# Altium integrated library TI Power Management Step-Down Regulator.IntLib: 559 symbols (part 7 of 35)
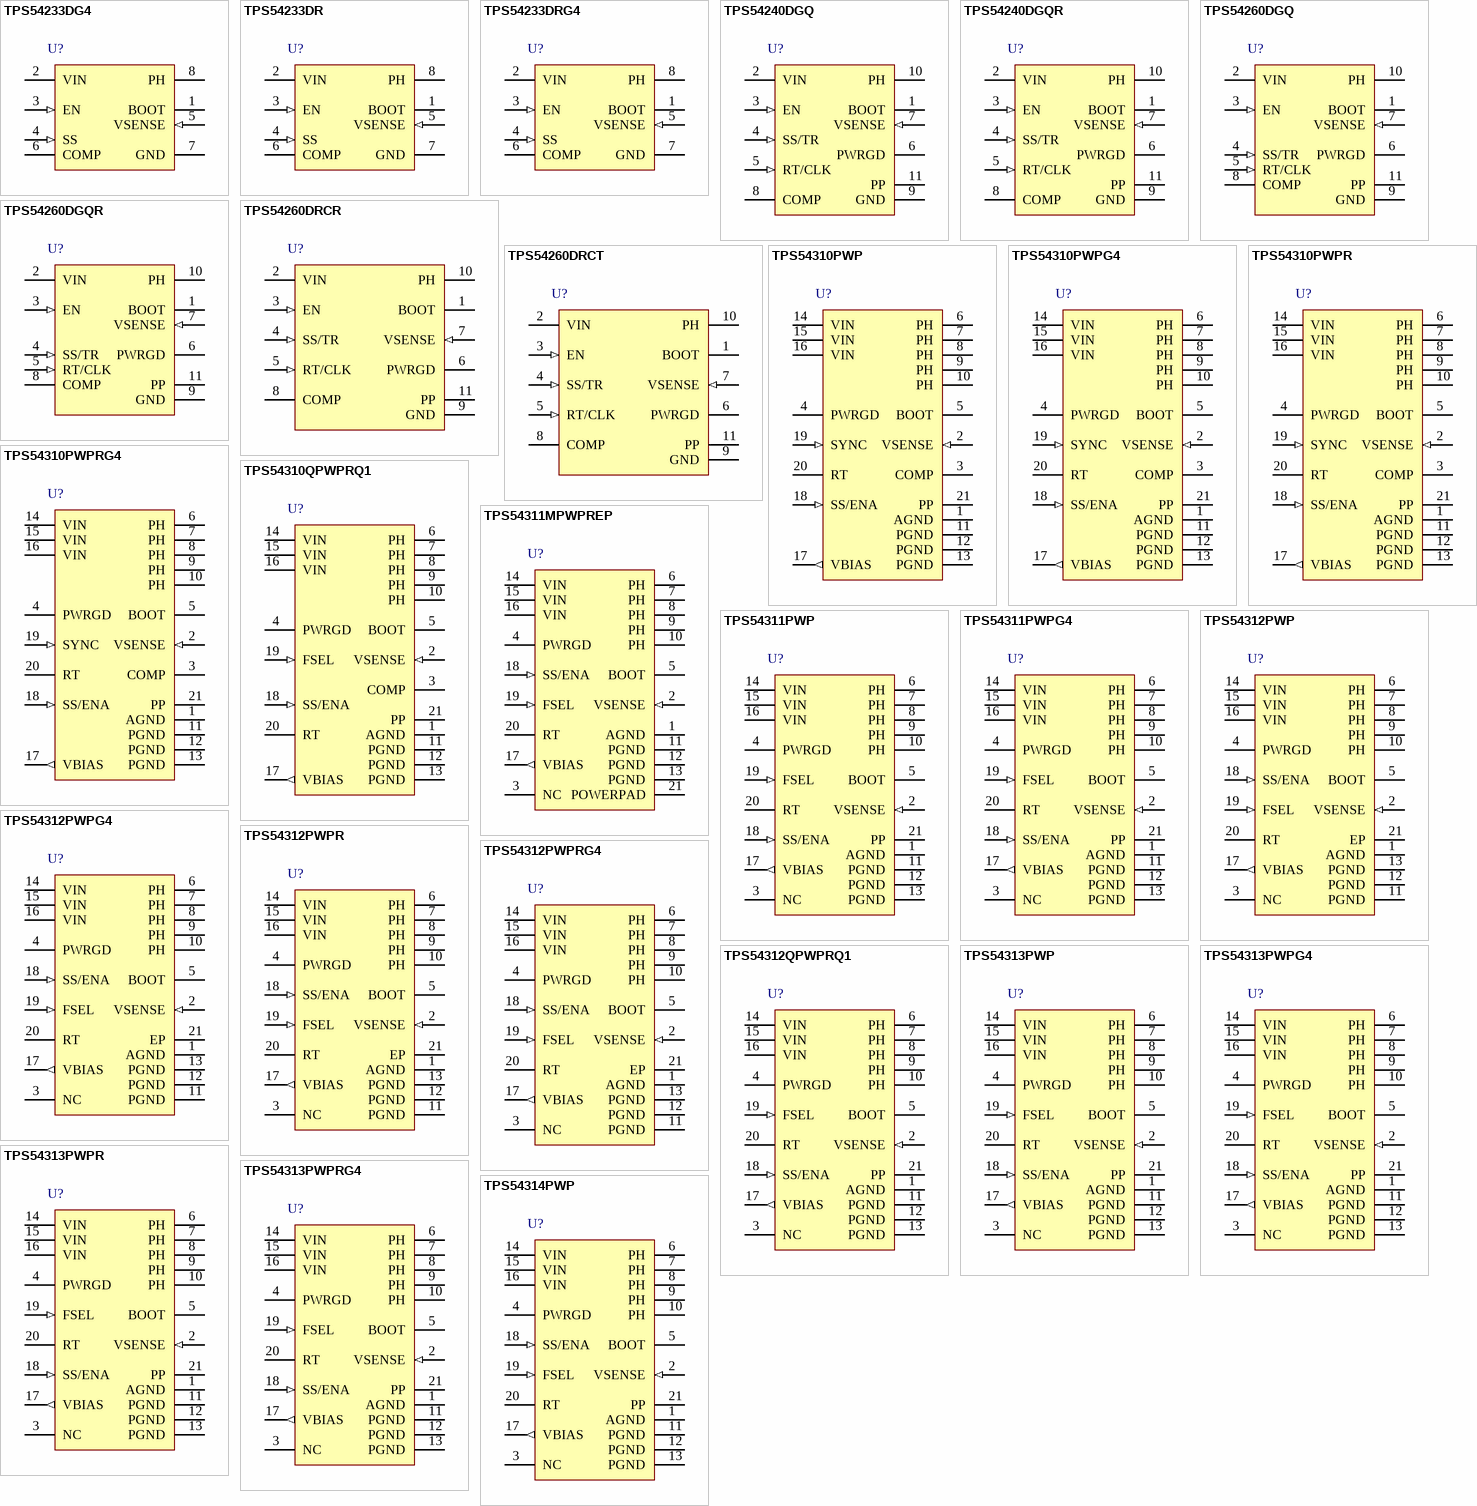
[diagram p25: symbols TPS54233DG4 to TPS54314PWP]

## TPS54260DRCR
designator U?
Buck Inverting Buck-Boost Step Down Regulator with 3.5 to 60 V Input and 0.8 to 58 V Output, -40 to 150 degC, 10-Pin SON (DRC), Green (RoHS & no Sb/Br); Manufacturer: Texas Instruments; PartNumber: TPS54260DRCR; Duty Cycle(Max)(%): 98; Iout(Max)(A): 2.5; Iq(Typ)(mA): 0.138; Rating: Catalog; Regulated Outputs(#): 1; SubFamily: Step-Down Regulator; Switch Current Limit(Typ)(A): 3.5; Topology: Buck, Inverting Buck-Boost; Vin(Max)(V): 60; Vout(Max)(V): 58; Vout(Min)(V): 0.8; DatasheetVersion: SLVSA86A; PackageVersion: revL, Sep-2011; PackageReference: DRC10-2400X1650TP; PackageDescription: 10-Pin Plastic Small Outline No-Lead, 3 x 3 x 1 mm Body, 0.5 mm Pitch, Exposed Pad; Supplier 1: Digi-Key; Supplier Part Number 1: TPS54260DRCR-ND; Supplier 2: Newark; Supplier Part Number 2: 24T4817; Supplier 3: Mouser; Supplier Part Number 3: 595-TPS54260DRCR; Eco-Plan: Green (RoHS & no Sb/Br); Vin(Min)(V): 3.5; Mounting Technology: Surface Mount; ComponentLink1Description: Datasheet; ComponentLink1URL: http://www.ti.com/general/docs/lit/getliterature.tsp?genericPartNumber=TPS54260&fileType=pdf; ComponentLink2Description: Package Specification; ComponentLink2URL: http://www.ti.com/litv/pdf/mpds117k; ComponentLink3Description: URL Link1; ComponentLink3URL: Samples URL:http://www.ti.com/product/tps54260#samples
footprint DRC10-2400X1650TP (SON, 10-Leads, Body 3x3mm, Pitch 0.5mm, Thermal Pad 2.4x1.65mm, TI Recommended)
pins: 1 BOOT "A bootstrap capacitor is required between BOOT and PH. If the voltage on this capacitor is below the minimum required by the output device, the output is forced to switch off until the capacitor is refreshed.", 2 VIN (power) "Input supply voltage, 3.5 V to 60 V.", 3 EN (in) "Enable pin, internal pull-up current source. Pull below 1.2V to disable. Float to enable. Adjust the input undervoltage lockout with two resistors.", 4 SS/TR (in) "Slow-start and Tracking. An external capacitor connected to this pin sets the output rise time. Since the voltage on this pin overrides the internal reference, it can be used for tracking and sequencing.", 5 RT/CLK (in) "Resistor Timing and External Clock. An internal amplifier holds this pin at a fixed voltage when using an external resistor to ground to set the switching frequency. If the pin is pulled above the PLL upper threshold, a mode (See Datasheet)", 6 PWRGD (oc) "An open drain output, asserts low if output voltage is low due to thermal shutdown, dropout, over-voltage or EN shut down.", 7 VSENSE (in) "Inverting node of the transconductance ( gm) error amplifier.", 8 COMP "Error amplifier output, and input to the output switch current comparator. Connect frequency compensation components to this pin.", 9 GND (power) "Ground", 10 PH (power) "The source of the internal high-side power MOSFET.", 11 PP (power) "GND pin must be electrically connected to the exposed pad on the printed circuit board for proper operation."

## TPS54260DRCT
designator U?
Buck Inverting Buck-Boost Step Down Regulator with 3.5 to 60 V Input and 0.8 to 58 V Output, -40 to 150 degC, 10-Pin SON (DRC), Green (RoHS & no Sb/Br); Manufacturer: Texas Instruments; PartNumber: TPS54260DRCT; Duty Cycle(Max)(%): 98; Iout(Max)(A): 2.5; Iq(Typ)(mA): 0.138; Rating: Catalog; Regulated Outputs(#): 1; SubFamily: Step-Down Regulator; Switch Current Limit(Typ)(A): 3.5; Topology: Buck, Inverting Buck-Boost; Vin(Max)(V): 60; Vout(Max)(V): 58; Vout(Min)(V): 0.8; DatasheetVersion: SLVSA86A; PackageVersion: revL, Sep-2011; PackageReference: DRC10-2400X1650TP; PackageDescription: 10-Pin Plastic Small Outline No-Lead, 3 x 3 x 1 mm Body, 0.5 mm Pitch, Exposed Pad; Supplier 1: Digi-Key; Supplier Part Number 1: 296-28102-2-ND; Supplier 2: Digi-Key; Supplier Part Number 2: 296-28102-1-ND; Supplier 3: Digi-Key; Supplier Part Number 3: 296-28102-6-ND; Supplier 4: Farnell; Supplier Part Number 4: 2115233; Supplier 5: Newark; Supplier Part Number 5: 94T6071; Supplier 6: Newark; Supplier Part Number 6: 24T4818; Supplier 7: Mouser; Supplier Part Number 7: 595-TPS54260DRCT; Eco-Plan: Green (RoHS & no Sb/Br); Vin(Min)(V): 3.5; Mounting Technology: Surface Mount; ComponentLink1Description: Datasheet; ComponentLink1URL: http://www.ti.com/general/docs/lit/getliterature.tsp?genericPartNumber=TPS54260&fileType=pdf; ComponentLink2Description: Package Specification; ComponentLink2URL: http://www.ti.com/litv/pdf/mpds117k; ComponentLink3Description: URL Link1; ComponentLink3URL: Samples URL:http://www.ti.com/product/tps54611#samples
footprint DRC10-2400X1650TP (SON, 10-Leads, Body 3x3mm, Pitch 0.5mm, Thermal Pad 2.4x1.65mm, TI Recommended)
pins: 1 BOOT "A bootstrap capacitor is required between BOOT and PH. If the voltage on this capacitor is below the minimum required by the output device, the output is forced to switch off until the capacitor is refreshed.", 2 VIN (power) "Input supply voltage, 3.5 V to 60 V.", 3 EN (in) "Enable pin, internal pull-up current source. Pull below 1.2V to disable. Float to enable. Adjust the input undervoltage lockout with two resistors.", 4 SS/TR (in) "Slow-start and Tracking. An external capacitor connected to this pin sets the output rise time. Since the voltage on this pin overrides the internal reference, it can be used for tracking and sequencing.", 5 RT/CLK (in) "Resistor Timing and External Clock. An internal amplifier holds this pin at a fixed voltage when using an external resistor to ground to set the switching frequency. If the pin is pulled above the PLL upper threshold, a mode (See Datasheet)", 6 PWRGD (oc) "An open drain output, asserts low if output voltage is low due to thermal shutdown, dropout, over-voltage or EN shut down.", 7 VSENSE (in) "Inverting node of the transconductance ( gm) error amplifier.", 8 COMP "Error amplifier output, and input to the output switch current comparator. Connect frequency compensation components to this pin.", 9 GND (power) "Ground", 10 PH (power) "The source of the internal high-side power MOSFET.", 11 PP (power) "GND pin must be electrically connected to the exposed pad on the printed circuit board for proper operation."

## TPS54310PWP
designator U?
Buck Step Down Regulator with 3 to 6 V Input and 0.9 to 3.3 V Output, -40 to 125 degC, 20-Pin HTSSOP (PWP), Green (RoHS & no Sb/Br); Manufacturer: Texas Instruments; PartNumber: TPS54310PWP; Duty Cycle(Max)(%): 87; Iout(Max)(A): 3; Iq(Typ)(mA): 6.2; Rating: Catalog; Regulated Outputs(#): 1; SubFamily: Step-Down Regulator; Switch Current Limit(Typ)(A): 4; Synchronous Rectification: TRUE; Vin(Max)(V): 6; Vout(Max)(V): 3.3; Vout(Min)(V): 0.9; DatasheetVersion: SLVS412D; PackageVersion: revI, May-2011; PackageReference: PWP20-3005X2005TP; PackageDescription: 20-Pin PowerPAD Plastic Small Outline 6.5 x 4.4 mm Body ,0.65 mm Pitch, Exposed Pad; Supplier 1: Digi-Key; Supplier Part Number 1: 296-12509-5-ND; Supplier 2: Farnell; Supplier Part Number 2: 1106048; Supplier 3: Newark; Supplier Part Number 3: 77C0489; Supplier 4: Mouser; Supplier Part Number 4: 595-TPS54310PWP; Eco-Plan: Green (RoHS & no Sb/Br); Topology: Buck; Vin(Min)(V): 3; Mounting Technology: Surface Mount; Code_JEDEC: MO-153; ComponentLink1Description: Datasheet; ComponentLink1URL: http://www.ti.com/general/docs/lit/getliterature.tsp?genericPartNumber=TPS54310&fileType=pdf; ComponentLink2Description: Package Specification; ComponentLink2URL: http://www.ti.com/lit/ml/mhts001g/mhts001g.pdf; ComponentLink3Description: URL Link1; ComponentLink3URL: Samples URL:http://www.ti.com/product/tps54310#samples
footprint PWP20-3005X2005TP_N (TSOP, 20-Leads, Body 6.5x4.4mm, Pitch 0.65mm, Thermal Pad 3.7x2.4 mm, IPC Medium Density)
footprint PWP20-3005X2005TP_L (TSOP, 20-Leads, Body 6.5x4.4mm, Pitch 0.65mm, Thermal Pad 3.7x2.4 mm, IPC High Density)
footprint PWP20-3005X2005TP_M (TSOP, 20-Leads, Body 6.5x4.4mm, Pitch 0.65mm, Thermal Pad 3.7x2.4 mm, IPC Low Density)
pins: 1 AGND (power) "Analog ground. Return for compensation network/output divider, slow-start capacitor, VBIAS capacitor, RT resistor and SYNC pin. Make PowerPAD connection to AGND.", 2 VSENSE (in) "Error amplifier inverting input.", 3 COMP "Error amplifier output. Connect compensation network from COMP to VSENSE.", 4 PWRGD (oc) "Power good open drain output. High when VSENSE >= 90% Vref, otherwise PWRGD is low. Note that output is low when SS/ENA is low or internal shutdown signal active.", 5 BOOT "Bootstrap input. 0.022-uF to 0.1-uF low-ESR capacitor connected from BOOT to PH generates floating drive for the high-side FET driver.", 6 PH (power) "Phase input/output. Junction of the internal high and low-side power MOSFETs, and output inductor.", 7 PH (power) "Phase input/output. Junction of the internal high and low-side power MOSFETs, and output inductor.", 8 PH (power) "Phase input/output. Junction of the internal high and low-side power MOSFETs, and output inductor.", 9 PH (power) "Phase input/output. Junction of the internal high and low-side power MOSFETs, and output inductor.", 10 PH (power) "Phase input/output. Junction of the internal high and low-side power MOSFETs, and output inductor.", 11 PGND (power) "Power ground. High current return for the low-side driver and power MOSFET. Connect PGND with large copper areas to the input and output supply returns, and negative terminals of the input and output capacitors.", 12 PGND (power) "Power ground. High current return for the low-side driver and power MOSFET. Connect PGND with large copper areas to the input and output supply returns, and negative terminals of the input and output capacitors.", 13 PGND (power) "Power ground. High current return for the low-side driver and power MOSFET. Connect PGND with large copper areas to the input and output supply returns, and negative terminals of the input and output capacitors.", 14 VIN (power) "Input supply for the power MOSFET switches and internal bias regulator. Bypass VIN pins to PGND pins close to device package with a high quality, low ESR 1-uF to 10-uF ceramic capacitor.", 15 VIN (power) "Input supply for the power MOSFET switches and internal bias regulator. Bypass VIN pins to PGND pins close to device package with a high quality, low ESR 1-uF to 10-uF ceramic capacitor.", 16 VIN (power) "Input supply for the power MOSFET switches and internal bias regulator. Bypass VIN pins to PGND pins close to device package with a high quality, low ESR 1-uF to 10-uF ceramic capacitor.", 17 VBIAS (out) "Internal bias regulator output. Supplies regulated voltage to internal circuitry. Bypass VBIAS pin to AGND pin with a high quality, low ESR 0.1-uF to 1.0-uF ceramic capacitor.", 18 SS/ENA (in) "Slow-start/enable input/output. Dual function pin which provides logic input to enable/disable device operation and capacitor input to externally set the start-up time.", 19 SYNC (in) "Synchronization input. Dual function pin which provides logic input to synchronize to an external oscillator or pin select between two internally set switching frequencies. When used to synchronize to an external signal, a (See Datasheet)", 20 RT "Frequency setting resistor input. Connect a resistor from RT to AGND to set the switching frequency, fs.", 21 PP (power) "Exposed Thermal Pad"

## TPS54310PWPG4
designator U?
Buck Step Down Regulator with 3 to 6 V Input and 0.9 to 3.3 V Output, -40 to 125 degC, 20-Pin HTSSOP (PWP), Green (RoHS & no Sb/Br); Manufacturer: Texas Instruments; PartNumber: TPS54310PWPG4; Duty Cycle(Max)(%): 87; Iout(Max)(A): 3; Iq(Typ)(mA): 6.2; Rating: Catalog; Regulated Outputs(#): 1; SubFamily: Step-Down Regulator; Switch Current Limit(Typ)(A): 4; Synchronous Rectification: TRUE; Vin(Max)(V): 6; Vout(Max)(V): 3.3; Vout(Min)(V): 0.9; DatasheetVersion: SLVS412D; PackageVersion: revI, May-2011; PackageReference: PWP20-3005X2005TP; PackageDescription: 20-Pin PowerPAD Plastic Small Outline 6.5 x 4.4 mm Body ,0.65 mm Pitch, Exposed Pad; Supplier 1: Digi-Key; Supplier Part Number 1: TPS54310PWPG4-ND; Supplier 2: Farnell; Supplier Part Number 2: 9324275; Supplier 3: Newark; Supplier Part Number 3: 38K8713; Supplier 4: Newark; Supplier Part Number 4: 24K5983; Supplier 5: Mouser; Supplier Part Number 5: 595-TPS54310PWPG4; Eco-Plan: Green (RoHS & no Sb/Br); Topology: Buck; Vin(Min)(V): 3; Mounting Technology: Surface Mount; Code_JEDEC: MO-153; ComponentLink1Description: Datasheet; ComponentLink1URL: http://www.ti.com/general/docs/lit/getliterature.tsp?genericPartNumber=TPS54310&fileType=pdf; ComponentLink2Description: Package Specification; ComponentLink2URL: http://www.ti.com/lit/ml/mhts001g/mhts001g.pdf; ComponentLink3Description: URL Link1; ComponentLink3URL: Samples URL:http://www.ti.com/product/tps54310#samples
footprint PWP20-3005X2005TP_N (TSOP, 20-Leads, Body 6.5x4.4mm, Pitch 0.65mm, Thermal Pad 3.7x2.4 mm, IPC Medium Density)
footprint PWP20-3005X2005TP_L (TSOP, 20-Leads, Body 6.5x4.4mm, Pitch 0.65mm, Thermal Pad 3.7x2.4 mm, IPC High Density)
footprint PWP20-3005X2005TP_M (TSOP, 20-Leads, Body 6.5x4.4mm, Pitch 0.65mm, Thermal Pad 3.7x2.4 mm, IPC Low Density)
pins: 1 AGND (power) "Analog ground. Return for compensation network/output divider, slow-start capacitor, VBIAS capacitor, RT resistor and SYNC pin. Make PowerPAD connection to AGND.", 2 VSENSE (in) "Error amplifier inverting input.", 3 COMP "Error amplifier output. Connect compensation network from COMP to VSENSE.", 4 PWRGD (oc) "Power good open drain output. High when VSENSE >= 90% Vref, otherwise PWRGD is low. Note that output is low when SS/ENA is low or internal shutdown signal active.", 5 BOOT "Bootstrap input. 0.022-uF to 0.1-uF low-ESR capacitor connected from BOOT to PH generates floating drive for the high-side FET driver.", 6 PH (power) "Phase input/output. Junction of the internal high and low-side power MOSFETs, and output inductor.", 7 PH (power) "Phase input/output. Junction of the internal high and low-side power MOSFETs, and output inductor.", 8 PH (power) "Phase input/output. Junction of the internal high and low-side power MOSFETs, and output inductor.", 9 PH (power) "Phase input/output. Junction of the internal high and low-side power MOSFETs, and output inductor.", 10 PH (power) "Phase input/output. Junction of the internal high and low-side power MOSFETs, and output inductor.", 11 PGND (power) "Power ground. High current return for the low-side driver and power MOSFET. Connect PGND with large copper areas to the input and output supply returns, and negative terminals of the input and output capacitors.", 12 PGND (power) "Power ground. High current return for the low-side driver and power MOSFET. Connect PGND with large copper areas to the input and output supply returns, and negative terminals of the input and output capacitors.", 13 PGND (power) "Power ground. High current return for the low-side driver and power MOSFET. Connect PGND with large copper areas to the input and output supply returns, and negative terminals of the input and output capacitors.", 14 VIN (power) "Input supply for the power MOSFET switches and internal bias regulator. Bypass VIN pins to PGND pins close to device package with a high quality, low ESR 1-uF to 10-uF ceramic capacitor.", 15 VIN (power) "Input supply for the power MOSFET switches and internal bias regulator. Bypass VIN pins to PGND pins close to device package with a high quality, low ESR 1-uF to 10-uF ceramic capacitor.", 16 VIN (power) "Input supply for the power MOSFET switches and internal bias regulator. Bypass VIN pins to PGND pins close to device package with a high quality, low ESR 1-uF to 10-uF ceramic capacitor.", 17 VBIAS (out) "Internal bias regulator output. Supplies regulated voltage to internal circuitry. Bypass VBIAS pin to AGND pin with a high quality, low ESR 0.1-uF to 1.0-uF ceramic capacitor.", 18 SS/ENA (in) "Slow-start/enable input/output. Dual function pin which provides logic input to enable/disable device operation and capacitor input to externally set the start-up time.", 19 SYNC (in) "Synchronization input. Dual function pin which provides logic input to synchronize to an external oscillator or pin select between two internally set switching frequencies. When used to synchronize to an external signal, a (See Datasheet)", 20 RT "Frequency setting resistor input. Connect a resistor from RT to AGND to set the switching frequency, fs.", 21 PP (power) "Exposed Thermal Pad"

## TPS54310PWPR
designator U?
Buck Step Down Regulator with 3 to 6 V Input and 0.9 to 3.3 V Output, -40 to 125 degC, 20-Pin HTSSOP (PWP), Green (RoHS & no Sb/Br); Manufacturer: Texas Instruments; PartNumber: TPS54310PWPR; Duty Cycle(Max)(%): 87; Iout(Max)(A): 3; Iq(Typ)(mA): 6.2; Rating: Catalog; Regulated Outputs(#): 1; SubFamily: Step-Down Regulator; Switch Current Limit(Typ)(A): 4; Synchronous Rectification: TRUE; Vin(Max)(V): 6; Vout(Max)(V): 3.3; Vout(Min)(V): 0.9; DatasheetVersion: SLVS412D; PackageVersion: revI, May-2011; PackageReference: PWP20-3005X2005TP; PackageDescription: 20-Pin PowerPAD Plastic Small Outline 6.5 x 4.4 mm Body ,0.65 mm Pitch, Exposed Pad; Supplier 1: Digi-Key; Supplier Part Number 1: 296-26989-2-ND; Supplier 2: Digi-Key; Supplier Part Number 2: 296-26989-1-ND; Supplier 3: Digi-Key; Supplier Part Number 3: 296-26989-6-ND; Supplier 4: Newark; Supplier Part Number 4: 77C0490; Supplier 5: Mouser; Supplier Part Number 5: 595-TPS54310PWPR; Eco-Plan: Green (RoHS & no Sb/Br); Topology: Buck; Vin(Min)(V): 3; Mounting Technology: Surface Mount; Code_JEDEC: MO-153; ComponentLink1Description: Datasheet; ComponentLink1URL: http://www.ti.com/general/docs/lit/getliterature.tsp?genericPartNumber=TPS54310&fileType=pdf; ComponentLink2Description: Package Specification; ComponentLink2URL: http://www.ti.com/lit/ml/mhts001g/mhts001g.pdf; ComponentLink3Description: URL Link1; ComponentLink3URL: Samples URL:http://www.ti.com/product/tps54310#samples
footprint PWP20-3005X2005TP_N (TSOP, 20-Leads, Body 6.5x4.4mm, Pitch 0.65mm, Thermal Pad 3.7x2.4 mm, IPC Medium Density)
footprint PWP20-3005X2005TP_L (TSOP, 20-Leads, Body 6.5x4.4mm, Pitch 0.65mm, Thermal Pad 3.7x2.4 mm, IPC High Density)
footprint PWP20-3005X2005TP_M (TSOP, 20-Leads, Body 6.5x4.4mm, Pitch 0.65mm, Thermal Pad 3.7x2.4 mm, IPC Low Density)
pins: 1 AGND (power) "Analog ground. Return for compensation network/output divider, slow-start capacitor, VBIAS capacitor, RT resistor and SYNC pin. Make PowerPAD connection to AGND.", 2 VSENSE (in) "Error amplifier inverting input.", 3 COMP "Error amplifier output. Connect compensation network from COMP to VSENSE.", 4 PWRGD (oc) "Power good open drain output. High when VSENSE >= 90% Vref, otherwise PWRGD is low. Note that output is low when SS/ENA is low or internal shutdown signal active.", 5 BOOT "Bootstrap input. 0.022-uF to 0.1-uF low-ESR capacitor connected from BOOT to PH generates floating drive for the high-side FET driver.", 6 PH (power) "Phase input/output. Junction of the internal high and low-side power MOSFETs, and output inductor.", 7 PH (power) "Phase input/output. Junction of the internal high and low-side power MOSFETs, and output inductor.", 8 PH (power) "Phase input/output. Junction of the internal high and low-side power MOSFETs, and output inductor.", 9 PH (power) "Phase input/output. Junction of the internal high and low-side power MOSFETs, and output inductor.", 10 PH (power) "Phase input/output. Junction of the internal high and low-side power MOSFETs, and output inductor.", 11 PGND (power) "Power ground. High current return for the low-side driver and power MOSFET. Connect PGND with large copper areas to the input and output supply returns, and negative terminals of the input and output capacitors.", 12 PGND (power) "Power ground. High current return for the low-side driver and power MOSFET. Connect PGND with large copper areas to the input and output supply returns, and negative terminals of the input and output capacitors.", 13 PGND (power) "Power ground. High current return for the low-side driver and power MOSFET. Connect PGND with large copper areas to the input and output supply returns, and negative terminals of the input and output capacitors.", 14 VIN (power) "Input supply for the power MOSFET switches and internal bias regulator. Bypass VIN pins to PGND pins close to device package with a high quality, low ESR 1-uF to 10-uF ceramic capacitor.", 15 VIN (power) "Input supply for the power MOSFET switches and internal bias regulator. Bypass VIN pins to PGND pins close to device package with a high quality, low ESR 1-uF to 10-uF ceramic capacitor.", 16 VIN (power) "Input supply for the power MOSFET switches and internal bias regulator. Bypass VIN pins to PGND pins close to device package with a high quality, low ESR 1-uF to 10-uF ceramic capacitor.", 17 VBIAS (out) "Internal bias regulator output. Supplies regulated voltage to internal circuitry. Bypass VBIAS pin to AGND pin with a high quality, low ESR 0.1-uF to 1.0-uF ceramic capacitor.", 18 SS/ENA (in) "Slow-start/enable input/output. Dual function pin which provides logic input to enable/disable device operation and capacitor input to externally set the start-up time.", 19 SYNC (in) "Synchronization input. Dual function pin which provides logic input to synchronize to an external oscillator or pin select between two internally set switching frequencies. When used to synchronize to an external signal, a (See Datasheet)", 20 RT "Frequency setting resistor input. Connect a resistor from RT to AGND to set the switching frequency, fs.", 21 PP (power) "Exposed Thermal Pad"

## TPS54310PWPRG4
designator U?
Buck Step Down Regulator with 3 to 6 V Input and 0.9 to 3.3 V Output, -40 to 125 degC, 20-Pin HTSSOP (PWP), Green (RoHS & no Sb/Br); Manufacturer: Texas Instruments; PartNumber: TPS54310PWPRG4; Duty Cycle(Max)(%): 87; Iout(Max)(A): 3; Iq(Typ)(mA): 6.2; Rating: Catalog; Regulated Outputs(#): 1; SubFamily: Step-Down Regulator; Switch Current Limit(Typ)(A): 4; Synchronous Rectification: TRUE; Vin(Max)(V): 6; Vout(Max)(V): 3.3; Vout(Min)(V): 0.9; DatasheetVersion: SLVS412D; PackageVersion: revI, May-2011; PackageReference: PWP20-3005X2005TP; PackageDescription: 20-Pin PowerPAD Plastic Small Outline 6.5 x 4.4 mm Body ,0.65 mm Pitch, Exposed Pad; Supplier 1: Digi-Key; Supplier Part Number 1: TPS54310PWPRG4-ND; Supplier 2: Newark; Supplier Part Number 2: 24K5984; Supplier 3: Mouser; Supplier Part Number 3: 595-TPS54310PWPRG4; Eco-Plan: Green (RoHS & no Sb/Br); Topology: Buck; Vin(Min)(V): 3; Mounting Technology: Surface Mount; Code_JEDEC: MO-153; ComponentLink1Description: Datasheet; ComponentLink1URL: http://www.ti.com/general/docs/lit/getliterature.tsp?genericPartNumber=TPS54310&fileType=pdf; ComponentLink2Description: Package Specification; ComponentLink2URL: http://www.ti.com/lit/ml/mhts001g/mhts001g.pdf; ComponentLink3Description: URL Link1; ComponentLink3URL: Samples URL:http://www.ti.com/product/tps54611#samples
footprint PWP20-3005X2005TP_N (TSOP, 20-Leads, Body 6.5x4.4mm, Pitch 0.65mm, Thermal Pad 3.7x2.4 mm, IPC Medium Density)
footprint PWP20-3005X2005TP_L (TSOP, 20-Leads, Body 6.5x4.4mm, Pitch 0.65mm, Thermal Pad 3.7x2.4 mm, IPC High Density)
footprint PWP20-3005X2005TP_M (TSOP, 20-Leads, Body 6.5x4.4mm, Pitch 0.65mm, Thermal Pad 3.7x2.4 mm, IPC Low Density)
pins: 1 AGND (power) "Analog ground. Return for compensation network/output divider, slow-start capacitor, VBIAS capacitor, RT resistor and SYNC pin. Make PowerPAD connection to AGND.", 2 VSENSE (in) "Error amplifier inverting input.", 3 COMP "Error amplifier output. Connect compensation network from COMP to VSENSE.", 4 PWRGD (oc) "Power good open drain output. High when VSENSE >= 90% Vref, otherwise PWRGD is low. Note that output is low when SS/ENA is low or internal shutdown signal active.", 5 BOOT "Bootstrap input. 0.022-uF to 0.1-uF low-ESR capacitor connected from BOOT to PH generates floating drive for the high-side FET driver.", 6 PH (power) "Phase input/output. Junction of the internal high and low-side power MOSFETs, and output inductor.", 7 PH (power) "Phase input/output. Junction of the internal high and low-side power MOSFETs, and output inductor.", 8 PH (power) "Phase input/output. Junction of the internal high and low-side power MOSFETs, and output inductor.", 9 PH (power) "Phase input/output. Junction of the internal high and low-side power MOSFETs, and output inductor.", 10 PH (power) "Phase input/output. Junction of the internal high and low-side power MOSFETs, and output inductor.", 11 PGND (power) "Power ground. High current return for the low-side driver and power MOSFET. Connect PGND with large copper areas to the input and output supply returns, and negative terminals of the input and output capacitors.", 12 PGND (power) "Power ground. High current return for the low-side driver and power MOSFET. Connect PGND with large copper areas to the input and output supply returns, and negative terminals of the input and output capacitors.", 13 PGND (power) "Power ground. High current return for the low-side driver and power MOSFET. Connect PGND with large copper areas to the input and output supply returns, and negative terminals of the input and output capacitors.", 14 VIN (power) "Input supply for the power MOSFET switches and internal bias regulator. Bypass VIN pins to PGND pins close to device package with a high quality, low ESR 1-uF to 10-uF ceramic capacitor.", 15 VIN (power) "Input supply for the power MOSFET switches and internal bias regulator. Bypass VIN pins to PGND pins close to device package with a high quality, low ESR 1-uF to 10-uF ceramic capacitor.", 16 VIN (power) "Input supply for the power MOSFET switches and internal bias regulator. Bypass VIN pins to PGND pins close to device package with a high quality, low ESR 1-uF to 10-uF ceramic capacitor.", 17 VBIAS (out) "Internal bias regulator output. Supplies regulated voltage to internal circuitry. Bypass VBIAS pin to AGND pin with a high quality, low ESR 0.1-uF to 1.0-uF ceramic capacitor.", 18 SS/ENA (in) "Slow-start/enable input/output. Dual function pin which provides logic input to enable/disable device operation and capacitor input to externally set the start-up time.", 19 SYNC (in) "Synchronization input. Dual function pin which provides logic input to synchronize to an external oscillator or pin select between two internally set switching frequencies. When used to synchronize to an external signal, a (See Datasheet)", 20 RT "Frequency setting resistor input. Connect a resistor from RT to AGND to set the switching frequency, fs.", 21 PP (power) "Exposed Thermal Pad"

## TPS54310QPWPRQ1
designator U?
Buck Step Down Regulator with 3 to 6 V Input and 0.9 to 3.3 V Output, -40 to 125 degC, 20-Pin HTSSOP (PWP), Green (RoHS & no Sb/Br); Manufacturer: Texas Instruments; PartNumber: TPS54310QPWPRQ1; Duty Cycle(Max)(%): 87; Iout(Max)(A): 3; Iq(Typ)(mA): 6.2; Rating: Automotive; Regulated Outputs(#): 1; SubFamily: Step-Down Regulator; Switch Current Limit(Typ)(A): 4; Synchronous Rectification: TRUE; Vin(Max)(V): 6; Vout(Max)(V): 3.3; Vout(Min)(V): 0.9; DatasheetVersion: SGLS280D; PackageVersion: revI, May-2011; PackageReference: PWP20-3005X2005TP; PackageDescription: 20-Pin PowerPAD Plastic Small Outline 6.5 x 4.4 mm Body ,0.65 mm Pitch, Exposed Pad; Supplier 1: Digi-Key; Supplier Part Number 1: 296-22941-2-ND; Supplier 2: Digi-Key; Supplier Part Number 2: 296-22941-1-ND; Supplier 3: Digi-Key; Supplier Part Number 3: 296-22941-6-ND; Supplier 4: Newark; Supplier Part Number 4: 08K4949; Supplier 5: Mouser; Supplier Part Number 5: 595-TPS54310QPWPRQ1; Eco-Plan: Green (RoHS & no Sb/Br); Topology: Buck; Vin(Min)(V): 3; Mounting Technology: Surface Mount; Code_JEDEC: MO-153; ComponentLink1Description: Datasheet; ComponentLink1URL: http://www.ti.com/general/docs/lit/getliterature.tsp?genericPartNumber=TPS54310-Q1&fileType=pdf; ComponentLink2Description: Package Specification; ComponentLink2URL: http://www.ti.com/lit/ml/mhts001g/mhts001g.pdf; ComponentLink3Description: URL Link1; ComponentLink3URL: Samples URL:http://www.ti.com/product/tps54611#samples
footprint PWP20-3005X2005TP_N (TSOP, 20-Leads, Body 6.5x4.4mm, Pitch 0.65mm, Thermal Pad 3.7x2.4 mm, IPC Medium Density)
footprint PWP20-3005X2005TP_L (TSOP, 20-Leads, Body 6.5x4.4mm, Pitch 0.65mm, Thermal Pad 3.7x2.4 mm, IPC High Density)
footprint PWP20-3005X2005TP_M (TSOP, 20-Leads, Body 6.5x4.4mm, Pitch 0.65mm, Thermal Pad 3.7x2.4 mm, IPC Low Density)
pins: 1 AGND (power) "Analog ground. Return for compensation network/output divider, slow-start capacitor, VBIAS capacitor, RT resistor, and FSEL pin. Make PowerPAD connection to AGND.", 2 VSENSE (in) "Error amplifier inverting input.", 3 COMP "Error amplifier output. Connect the compensation network from COMP to VSENSE.", 4 PWRGD (oc) "Power good open drain output. High when VSENSE >= 90% Vref, otherwise PWRGD is low. Note that output is low when SS/ENA is low or internal shutdown signal active.", 5 BOOT "Bootstrap input. A 0.022-uF to 0.1-uF low-ESR capacitor connected from BOOT to PH generates floating drive for the high-side FET driver.", 6 PH (power) "Phase input/output. Junction of the internal high and low-side power MOSFETs and output inductor.", 7 PH (power) "Phase input/output. Junction of the internal high and low-side power MOSFETs and output inductor.", 8 PH (power) "Phase input/output. Junction of the internal high and low-side power MOSFETs and output inductor.", 9 PH (power) "Phase input/output. Junction of the internal high and low-side power MOSFETs and output inductor.", 10 PH (power) "Phase input/output. Junction of the internal high and low-side power MOSFETs and output inductor.", 11 PGND (power) "Power ground. High current return for the low-side driver and power MOSFET. Connect PGND with large copper areas to the input and output supply returns and negative terminals of the input and output capacitors.", 12 PGND (power) "Power ground. High current return for the low-side driver and power MOSFET. Connect PGND with large copper areas to the input and output supply returns and negative terminals of the input and output capacitors.", 13 PGND (power) "Power ground. High current return for the low-side driver and power MOSFET. Connect PGND with large copper areas to the input and output supply returns and negative terminals of the input and output capacitors.", 14 VIN (power) "Input supply for the power MOSFET switches and internal bias regulator. Bypass VIN pins to PGND pins close to the device package with a high quality, low ESR 1-uF to 10-uF ceramic capacitor.", 15 VIN (power) "Input supply for the power MOSFET switches and internal bias regulator. Bypass VIN pins to PGND pins close to the device package with a high quality, low ESR 1-uF to 10-uF ceramic capacitor.", 16 VIN (power) "Input supply for the power MOSFET switches and internal bias regulator. Bypass VIN pins to PGND pins close to the device package with a high quality, low ESR 1-uF to 10-uF ceramic capacitor.", 17 VBIAS (out) "Internal bias regulator output. Supplies regulated voltage to internal circuitry. Bypass VBIAS pin to AGND pin with a high quality, low ESR 0.1-uF to 1-uF ceramic capacitor.", 18 SS/ENA (in) "Slow-start/enable input/output. Dual function pin which provides logic input to enable/disable device operation and capacitor input to externally set the start-up time.", 19 FSEL (in) "Synchronization input. Dual function pin which provides logic input to synchronize to an external oscillator or pin select between two internally set switching frequencies. When used to synchronize to an external signal, a (See Datasheet)", 20 RT "Frequency setting resistor input. Connect a resistor from RT to AGND to set the switching frequency, fs.", 21 PP (power) "Connect it to AGND."

## TPS54311MPWPREP
designator U?
Buck PWM Switcher with 3 to 6 V Input, -55 to 125 degC, 20-Pin HTSSOP (PWP), Green (RoHS & no Sb/Br); Manufacturer: Texas Instruments; PartNumber: TPS54311MPWPREP; Duty Cycle(Max)(%): 90; Iout(Max)(A): 3; Iq(Typ)(mA): 6.2; Preset Vout(V): 0.9; Rating: HiRel Enhanced Product; Regulated Outputs(#): 1; SubFamily: Step-Down Regulator; Switch Current Limit(Typ)(A): 4; Synchronous Rectification: TRUE; Vin(Max)(V): 6; DatasheetVersion: SGLS376A; PackageVersion: revI, May-2011; PackageReference: PWP20-3005X2005TP; PackageDescription: 20-Pin PowerPAD Plastic Small Outline 6.5 x 4.4 mm Body ,0.65 mm Pitch, Exposed Pad; Supplier 1: Digi-Key; Supplier Part Number 1: 296-22448-2-ND; Supplier 2: Digi-Key; Supplier Part Number 2: 296-22448-1-ND; Supplier 3: Digi-Key; Supplier Part Number 3: 296-22448-6-ND; Supplier 4: Newark; Supplier Part Number 4: 46M1114; Supplier 5: Mouser; Supplier Part Number 5: 595-TPS54311MPWPREP; Eco-Plan: Green (RoHS & no Sb/Br); Topology: Buck; Vin(Min)(V): 3; Mounting Technology: Surface Mount; Code_JEDEC: MO-153; ComponentLink1Description: Datasheet; ComponentLink1URL: http://www.ti.com/general/docs/lit/getliterature.tsp?genericPartNumber=TPS54311-EP&fileType=pdf; ComponentLink2Description: Package Specification; ComponentLink2URL: http://www.ti.com/lit/ml/mhts001g/mhts001g.pdf; ComponentLink3Description: URL Link1; ComponentLink3URL: Samples URL:http://www.ti.com/product/tps54311-ep#samples
footprint PWP20-3005X2005TP_N (TSOP, 20-Leads, Body 6.5x4.4mm, Pitch 0.65mm, Thermal Pad 3.7x2.4 mm, IPC Medium Density)
footprint PWP20-3005X2005TP_L (TSOP, 20-Leads, Body 6.5x4.4mm, Pitch 0.65mm, Thermal Pad 3.7x2.4 mm, IPC High Density)
footprint PWP20-3005X2005TP_M (TSOP, 20-Leads, Body 6.5x4.4mm, Pitch 0.65mm, Thermal Pad 3.7x2.4 mm, IPC Low Density)
pins: 1 AGND (power) "Analog ground. Return for compensation network/output divider, slow-start capacitor, VBIAS capacitor, RT resistor and FSEL pin. Make PowerPAD connection to AGND.", 2 VSENSE (in) "Error amplifier inverting input. Connect directly to output voltage sense point.", 3 NC "No connection", 4 PWRGD (hiz) "Power good open drain output. Hi-Z when VSENSE >= 90% Vref , otherwise PWRGD is low. Note that output is low when SS/ENA is low or internal shutdown signal active", 5 BOOT "Bootstrap input. 0.022-uF to 0.1-uF low-ESR capacitor connected from BOOT to PH generates floating drive for the high-side FET driver", 6 PH (power) "Phase input/output. Junction of the internal high and low-side power MOSFETs, and output inductor", 7 PH (power) "Phase input/output. Junction of the internal high and low-side power MOSFETs, and output inductor", 8 PH (power) "Phase input/output. Junction of the internal high and low-side power MOSFETs, and output inductor", 9 PH (power) "Phase input/output. Junction of the internal high and low-side power MOSFETs, and output inductor", 10 PH (power) "Phase input/output. Junction of the internal high and low-side power MOSFETs, and output inductor", 11 PGND (power) "Power ground. High current return for the low-side driver and power MOSFET. Connect PGND with large copper areas to the input and output supply returns, and negative terminals of the input and output capacitors.", 12 PGND (power) "Power ground. High current return for the low-side driver and power MOSFET. Connect PGND with large copper areas to the input and output supply returns, and negative terminals of the input and output capacitors.", 13 PGND (power) "Power ground. High current return for the low-side driver and power MOSFET. Connect PGND with large copper areas to the input and output supply returns, and negative terminals of the input and output capacitors.", 14 VIN (power) "Input supply for the power MOSFET switches and internal bias regulator. Bypass VIN pins to PGND pins close to device package with a high quality, low ESR 1-uF to 10-uF ceramic capacitor.", 15 VIN (power) "Input supply for the power MOSFET switches and internal bias regulator. Bypass VIN pins to PGND pins close to device package with a high quality, low ESR 1-uF to 10-uF ceramic capacitor.", 16 VIN (power) "Input supply for the power MOSFET switches and internal bias regulator. Bypass VIN pins to PGND pins close to device package with a high quality, low ESR 1-uF to 10-uF ceramic capacitor.", 17 VBIAS (out) "Internal bias regulator output. Supplies regulated voltage to internal circuitry. Bypass VBIAS pin to AGND pin with a high quality, low ESR 0.1-uF to 1-uF ceramic capacitor.", 18 SS/ENA (in) "Slow-start/enable input/output. Dual function pin which provides logic input to enable/disable device operation and capacitor input to externally set the start-up time.", 19 FSEL (in) "Frequency select input. Provides logic input to select between two internally set switching frequencies.", 20 RT "Frequency setting resistor input. Connect a resistor from RT to AGND to set the switching frequency, f s .", 21 POWERPAD (power) "Connect to AGND."

## TPS54311PWP
designator U?
Buck Step Down Regulator with 3 to 6 V Input, 20-Pin HTSSOP (PWP), Green (RoHS & no Sb/Br); Manufacturer: Texas Instruments; PartNumber: TPS54311PWP; Duty Cycle(Max)(%): 90; Iout(Max)(A): 3; Iq(Typ)(mA): 6.2; Preset Vout(V): 0.9; Rating: Catalog; Regulated Outputs(#): 1; SubFamily: Step-Down Regulator; Switch Current Limit(Typ)(A): 4; Synchronous Rectification: TRUE; Vin(Max)(V): 6; DatasheetVersion: SLVS416B; PackageVersion: revI, May-2011; PackageReference: PWP20-3005X2005TP; PackageDescription: 20-Pin PowerPAD Plastic Small Outline 6.5 x 4.4 mm Body ,0.65 mm Pitch, Exposed Pad; Supplier 1: Digi-Key; Supplier Part Number 1: 296-12679-5-ND; Supplier 2: Newark; Supplier Part Number 2: 77C0491; Supplier 3: Mouser; Supplier Part Number 3: 595-TPS54311PWP; Eco-Plan: Green (RoHS & no Sb/Br); Topology: Buck; Vin(Min)(V): 3; Mounting Technology: Surface Mount; Code_JEDEC: MO-153; ComponentLink1Description: Datasheet; ComponentLink1URL: http://www.ti.com/general/docs/lit/getliterature.tsp?genericPartNumber=TPS54311&fileType=pdf; ComponentLink2Description: Package Specification; ComponentLink2URL: http://www.ti.com/lit/ml/mhts001g/mhts001g.pdf; ComponentLink3Description: URL Link1; ComponentLink3URL: Samples URL:http://www.ti.com/product/tps54311#samples
footprint PWP20-3005X2005TP_N (TSOP, 20-Leads, Body 6.5x4.4mm, Pitch 0.65mm, Thermal Pad 3.7x2.4 mm, IPC Medium Density)
footprint PWP20-3005X2005TP_L (TSOP, 20-Leads, Body 6.5x4.4mm, Pitch 0.65mm, Thermal Pad 3.7x2.4 mm, IPC High Density)
footprint PWP20-3005X2005TP_M (TSOP, 20-Leads, Body 6.5x4.4mm, Pitch 0.65mm, Thermal Pad 3.7x2.4 mm, IPC Low Density)
pins: 1 AGND (power) "Analog ground. Return for compensation network/output divider, slow-start capacitor, VBIAS capacitor, RT resistor and FSEL pin. Make PowerPAD connection to AGND.", 2 VSENSE (in) "Error amplifier inverting input. Connect directly to output voltage sense point.", 3 NC "No connection", 4 PWRGD (hiz) "Power good open drain output. Hi-Z when VSENSE >= 90% Vref , otherwise PWRGD is low. Note that output is low when SS/ENA is low or internal shutdown signal active", 5 BOOT "Bootstrap input. 0.022-uF to 0.1-uF low-ESR capacitor connected from BOOT to PH generates floating drive for the high-side FET driver", 6 PH (power) "Phase input/output. Junction of the internal high and low-side power MOSFETs, and output inductor", 7 PH (power) "Phase input/output. Junction of the internal high and low-side power MOSFETs, and output inductor", 8 PH (power) "Phase input/output. Junction of the internal high and low-side power MOSFETs, and output inductor", 9 PH (power) "Phase input/output. Junction of the internal high and low-side power MOSFETs, and output inductor", 10 PH (power) "Phase input/output. Junction of the internal high and low-side power MOSFETs, and output inductor", 11 PGND (power) "Power ground. High current return for the low-side driver and power MOSFET. Connect PGND with large copper areas to the input and output supply returns, and negative terminals of the input and output capacitors.", 12 PGND (power) "Power ground. High current return for the low-side driver and power MOSFET. Connect PGND with large copper areas to the input and output supply returns, and negative terminals of the input and output capacitors.", 13 PGND (power) "Power ground. High current return for the low-side driver and power MOSFET. Connect PGND with large copper areas to the input and output supply returns, and negative terminals of the input and output capacitors.", 14 VIN (power) "Input supply for the power MOSFET switches and internal bias regulator. Bypass VIN pins to PGND pins close to device package with a high quality, low ESR 1-uF to 10-uF ceramic capacitor.", 15 VIN (power) "Input supply for the power MOSFET switches and internal bias regulator. Bypass VIN pins to PGND pins close to device package with a high quality, low ESR 1-uF to 10-uF ceramic capacitor.", 16 VIN (power) "Input supply for the power MOSFET switches and internal bias regulator. Bypass VIN pins to PGND pins close to device package with a high quality, low ESR 1-uF to 10-uF ceramic capacitor.", 17 VBIAS (out) "Internal bias regulator output. Supplies regulated voltage to internal circuitry. Bypass VBIAS pin to AGND pin with a high quality, low ESR 0.1-uF to 1-uF ceramic capacitor.", 18 SS/ENA (in) "Slow-start/enable input/output. Dual function pin which provides logic input to enable/disable device operation and capacitor input to externally set the start-up time.", 19 FSEL (in) "Frequency select input. Provides logic input to select between two internally set switching frequencies.", 20 RT "Frequency setting resistor input. Connect a resistor from RT to AGND to set the switching frequency, f s .", 21 PP (power) "Connect to AGND."

## TPS54311PWPG4
designator U?
Buck Step Down Regulator with 3 to 6 V Input, 20-Pin HTSSOP (PWP), Green (RoHS & no Sb/Br); Manufacturer: Texas Instruments; PartNumber: TPS54311PWPG4; Duty Cycle(Max)(%): 90; Iout(Max)(A): 3; Iq(Typ)(mA): 6.2; Preset Vout(V): 0.9; Rating: Catalog; Regulated Outputs(#): 1; SubFamily: Step-Down Regulator; Switch Current Limit(Typ)(A): 4; Synchronous Rectification: TRUE; Vin(Max)(V): 6; DatasheetVersion: SLVS416B; PackageVersion: revI, May-2011; PackageReference: PWP20-3005X2005TP; PackageDescription: 20-Pin PowerPAD Plastic Small Outline 6.5 x 4.4 mm Body ,0.65 mm Pitch, Exposed Pad; Supplier 1: Digi-Key; Supplier Part Number 1: TPS54311PWPG4-ND; Supplier 2: Mouser; Supplier Part Number 2: 595-TPS54311PWPG4; Eco-Plan: Green (RoHS & no Sb/Br); Topology: Buck; Vin(Min)(V): 3; Mounting Technology: Surface Mount; Code_JEDEC: MO-153; ComponentLink1Description: Datasheet; ComponentLink1URL: http://www.ti.com/general/docs/lit/getliterature.tsp?genericPartNumber=TPS54311&fileType=pdf; ComponentLink2Description: Package Specification; ComponentLink2URL: http://www.ti.com/lit/ml/mhts001g/mhts001g.pdf; ComponentLink3Description: URL Link1; ComponentLink3URL: Samples URL:http://www.ti.com/product/tps54611#samples
footprint PWP20-3005X2005TP_N (TSOP, 20-Leads, Body 6.5x4.4mm, Pitch 0.65mm, Thermal Pad 3.7x2.4 mm, IPC Medium Density)
footprint PWP20-3005X2005TP_L (TSOP, 20-Leads, Body 6.5x4.4mm, Pitch 0.65mm, Thermal Pad 3.7x2.4 mm, IPC High Density)
footprint PWP20-3005X2005TP_M (TSOP, 20-Leads, Body 6.5x4.4mm, Pitch 0.65mm, Thermal Pad 3.7x2.4 mm, IPC Low Density)
pins: 1 AGND (power) "Analog ground. Return for compensation network/output divider, slow-start capacitor, VBIAS capacitor, RT resistor and FSEL pin. Make PowerPAD connection to AGND.", 2 VSENSE (in) "Error amplifier inverting input. Connect directly to output voltage sense point.", 3 NC "No connection", 4 PWRGD (hiz) "Power good open drain output. Hi-Z when VSENSE >= 90% Vref , otherwise PWRGD is low. Note that output is low when SS/ENA is low or internal shutdown signal active", 5 BOOT "Bootstrap input. 0.022-uF to 0.1-uF low-ESR capacitor connected from BOOT to PH generates floating drive for the high-side FET driver", 6 PH (power) "Phase input/output. Junction of the internal high and low-side power MOSFETs, and output inductor", 7 PH (power) "Phase input/output. Junction of the internal high and low-side power MOSFETs, and output inductor", 8 PH (power) "Phase input/output. Junction of the internal high and low-side power MOSFETs, and output inductor", 9 PH (power) "Phase input/output. Junction of the internal high and low-side power MOSFETs, and output inductor", 10 PH (power) "Phase input/output. Junction of the internal high and low-side power MOSFETs, and output inductor", 11 PGND (power) "Power ground. High current return for the low-side driver and power MOSFET. Connect PGND with large copper areas to the input and output supply returns, and negative terminals of the input and output capacitors.", 12 PGND (power) "Power ground. High current return for the low-side driver and power MOSFET. Connect PGND with large copper areas to the input and output supply returns, and negative terminals of the input and output capacitors.", 13 PGND (power) "Power ground. High current return for the low-side driver and power MOSFET. Connect PGND with large copper areas to the input and output supply returns, and negative terminals of the input and output capacitors.", 14 VIN (power) "Input supply for the power MOSFET switches and internal bias regulator. Bypass VIN pins to PGND pins close to device package with a high quality, low ESR 1-uF to 10-uF ceramic capacitor.", 15 VIN (power) "Input supply for the power MOSFET switches and internal bias regulator. Bypass VIN pins to PGND pins close to device package with a high quality, low ESR 1-uF to 10-uF ceramic capacitor.", 16 VIN (power) "Input supply for the power MOSFET switches and internal bias regulator. Bypass VIN pins to PGND pins close to device package with a high quality, low ESR 1-uF to 10-uF ceramic capacitor.", 17 VBIAS (out) "Internal bias regulator output. Supplies regulated voltage to internal circuitry. Bypass VBIAS pin to AGND pin with a high quality, low ESR 0.1-uF to 1-uF ceramic capacitor.", 18 SS/ENA (in) "Slow-start/enable input/output. Dual function pin which provides logic input to enable/disable device operation and capacitor input to externally set the start-up time.", 19 FSEL (in) "Frequency select input. Provides logic input to select between two internally set switching frequencies.", 20 RT "Frequency setting resistor input. Connect a resistor from RT to AGND to set the switching frequency, f s .", 21 PP (power) "Connect to AGND."